# EAGLE library part 74LVC2G3157DPJ (library F030NG)
74LVC2G3157 - Dual 10 Ω single-pole double-throw analog switch
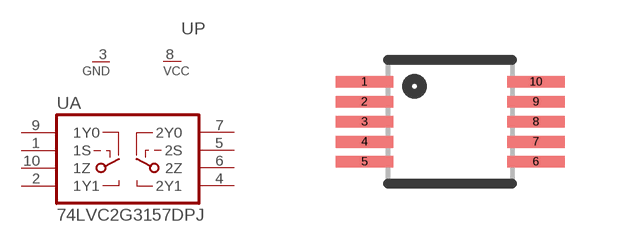
[diagram p90: symbol with the pads of TSSOP10-X; footprint TSSOP10-X]

Designator prefix U; gates A=74LVC2G3157DPJ P=1VCC_1GND

## 74LVC2G3157DPJ (AVAILABILITY: Unavailable; DESCRIPTION: 2 Circuit IC Switch 2:1 15Ohm 10-TSSOP; MF: Nexperia USA; MP: 74LVC2G3157DPJ; PACKAGE: TFSOP-10 Nexperia; PRICE: None)  [TSSOP10-X]
1  A:1S  in
2  A:1Y1
3  P:GND  pwr
4  A:2Y1
5  A:2S  in
6  A:2Z
7  A:2Y0
8  P:VCC  pwr
9  A:1Y0
10  A:1Z

## Footprint TSSOP10-X (pad centres in mm)
smd 1.44 x 0.3: 1 -2.145,1; 2 -2.145,0.5; 3 -2.145,0; 4 -2.145,-0.5; 5 -2.145,-1; 6 2.145,-1; 7 2.145,-0.5; 8 2.145,0; 9 2.145,0.5; 10 2.145,1